# Altium schematic symbol library GH1.25.SchLib: 11 symbols
Pins are listed as number, name and electrical type; pins without a type are passive.

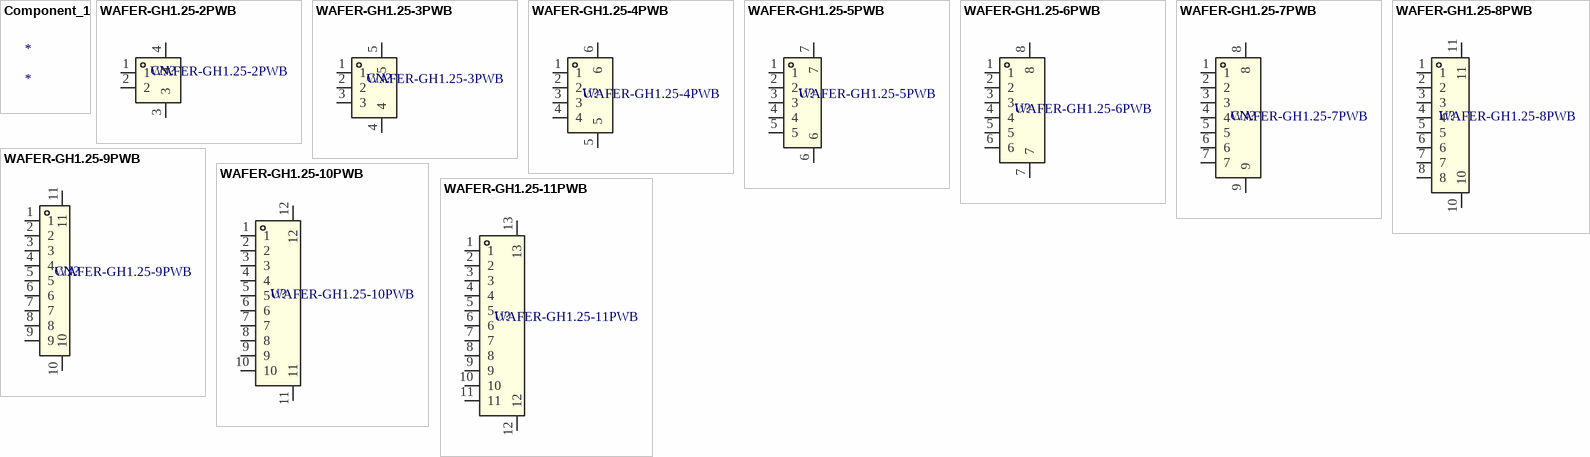
[diagram p0: symbols Component_1 to WAFER-GH1.25-11PWB]

## Component_1
designator *

## WAFER-GH1.25-2PWB
designator CN?
插针结构:1x2P;间距:1.25mm;安装方式:卧贴;参考系列:GH;总PIN数:2P;排数:1;每排PIN数:2;行距:-;额定电流:1A;触头材质:黄铜;触头镀层:锡;工作温度:-25℃~+85℃;; Manufacturer: XUNPU(讯普); SEEX_AUTHOR: ref42; SEEX_COMPONENT_ID: C3029377; Current Rating: 1A; Number of PINs Per Row: 2; Pins Structure: 1x2P; Pitch: 1.25mm; Plastic Material: LCP; Reference Series: GH; Supplementary Features: 辅助焊脚; Voltage Rating: 125V; X-Length of Bottom Edge on Board (Spacing Line): 5.75mm; Y-Width of Bottom Edge on Board: 5mm; Z-Height of the Board: 4.35mm; SEEX_PROJECT_URL: https://github.com/ref42/seex; Footprint: CONN-TH_2P-P1.25_XUNPU_WAFER-GH1.25-2PWB; Color: 米色; Contact Material: 黄铜; Contact Plating: 锡; Datasheet: https://item.szlcsc.com/datasheet/WAFER-GH1.25-2PWB/3561389.html; JLCPCB Part Class: Extended Part; LCSC Part Name: 1x2P 间距:1.25mm 卧贴 系列:GH; Manufacturer Part: WAFER-GH1.25-2PWB; Mounting Type: 卧贴; Number of Pins: 2P; Number of Rows: 1; Operating Temperature: -25℃~+85℃; Supplier: LCSC; Supplier Footprint: SMD,P=1.25mm,卧贴; Supplier Part: C3029377
footprint CONN-TH_2P-P1.25_XUNPU_WAFER-GH1.25-2PLB (SMD,P=1.25mm 卧贴)
pins: 1, 2, 3, 4

## WAFER-GH1.25-3PWB
designator CN?
插针结构:1x3P;间距:1.25mm;安装方式:卧贴;参考系列:GH;总PIN数:3P;排数:1;每排PIN数:3;行距:-;额定电流:1A;触头材质:黄铜;触头镀层:锡;工作温度:-25℃~+85℃;; Manufacturer: XUNPU(讯普); SEEX_AUTHOR: ref42; SEEX_COMPONENT_ID: C3029378; Current Rating: 1A; Number of PINs Per Row: 3; Pins Structure: 1x3P; Pitch: 1.25mm; Plastic Material: LCP; Reference Series: GH; Supplementary Features: 辅助焊脚; Voltage Rating: 125V; X-Length of Bottom Edge on Board (Spacing Line): 7mm; Y-Width of Bottom Edge on Board: 5mm; Z-Height of the Board: 4.35mm; SEEX_PROJECT_URL: https://github.com/ref42/seex; Footprint: CONN-TH_3P-P1.25_GH1.25; Color: 米色; Contact Material: 黄铜; Contact Plating: 锡; Datasheet: https://item.szlcsc.com/datasheet/WAFER-GH1.25-3PWB/3561390.html; JLCPCB Part Class: Extended Part; LCSC Part Name: 1x3P 间距:1.25mm 卧贴 系列:GH; Manufacturer Part: WAFER-GH1.25-3PWB; Mounting Type: 卧贴; Number of Pins: 3P; Number of Rows: 1; Operating Temperature: -25℃~+85℃; Supplier: LCSC; Supplier Footprint: SMD,P=1.25mm,卧贴; Supplier Part: C3029378
footprint CONN-SMD_3P-P1.25_XUNPU_WAFER-GH1.25-3PLB (SMD,P=1.25mm 卧贴)
pins: 1, 2, 3, 4, 5

## WAFER-GH1.25-4PWB
designator U?
插针结构:1x4P;间距:1.25mm;安装方式:卧贴;参考系列:GH;总PIN数:4P;排数:1;每排PIN数:4;行距:-;额定电流:1A;触头材质:黄铜;触头镀层:锡;工作温度:-25℃~+85℃;; Manufacturer: XUNPU(讯普); SEEX_AUTHOR: ref42; SEEX_COMPONENT_ID: C3029379; Current Rating: 1A; Number of PINs Per Row: 4; Pins Structure: 1x4P; Pitch: 1.25mm; Plastic Material: LCP; Reference Series: GH; Supplementary Features: 辅助焊脚; Voltage Rating: 125V; X-Length of Bottom Edge on Board (Spacing Line): 8.25mm; Y-Width of Bottom Edge on Board: 5mm; Z-Height of the Board: 4.35mm; SEEX_PROJECT_URL: https://github.com/ref42/seex; Footprint: CONN-SMD_4P-P1.25_XUNPU_WAFER-GH1.25-4PWB; Color: 米色; Contact Material: 黄铜; Contact Plating: 锡; Datasheet: https://item.szlcsc.com/datasheet/WAFER-GH1.25-4PWB/3561391.html; JLCPCB Part Class: Extended Part; LCSC Part Name: 1x4P 间距:1.25mm 卧贴 系列:GH; Manufacturer Part: WAFER-GH1.25-4PWB; Mounting Type: 卧贴; Number of Pins: 4P; Number of Rows: 1; Operating Temperature: -25℃~+85℃; Supplier: LCSC; Supplier Footprint: SMD,P=1.25mm,卧贴; Supplier Part: C3029379
footprint CONN-SMD_4P-P1.25_XUNPU_WAFER-GH1.25-4PLB (SMD,P=1.25mm 卧贴)
pins: 1, 2, 3, 4, 5, 6

## WAFER-GH1.25-5PWB
designator U?
插针结构:1x5P;间距:1.25mm;安装方式:卧贴;参考系列:GH;总PIN数:5P;排数:1;每排PIN数:5;行距:-;额定电流:1A;触头材质:黄铜;触头镀层:锡;工作温度:-25℃~+85℃;; Manufacturer: XUNPU(讯普); SEEX_AUTHOR: ref42; SEEX_COMPONENT_ID: C3029380; Current Rating: 1A; Number of PINs Per Row: 5; Pins Structure: 1x5P; Pitch: 1.25mm; Plastic Material: LCP; Reference Series: GH; Supplementary Features: 辅助焊脚; Voltage Rating: 125V; X-Length of Bottom Edge on Board (Spacing Line): 9.5mm; Y-Width of Bottom Edge on Board: 5mm; Z-Height of the Board: 4.35mm; SEEX_PROJECT_URL: https://github.com/ref42/seex; Footprint: CONN-SMD_5P-P1.25_XUNPU_WAFER-GH1.25-5PWB; Color: 米色; Contact Material: 黄铜; Contact Plating: 锡; Datasheet: https://item.szlcsc.com/datasheet/WAFER-GH1.25-5PWB/3561392.html; JLCPCB Part Class: Extended Part; LCSC Part Name: 1x5P 间距:1.25mm 卧贴 系列:GH; Manufacturer Part: WAFER-GH1.25-5PWB; Mounting Type: 卧贴; Number of Pins: 5P; Number of Rows: 1; Operating Temperature: -25℃~+85℃; Supplier: LCSC; Supplier Footprint: SMD,P=1.25mm,卧贴; Supplier Part: C3029380
footprint CONN-SMD_5P-P1.25_XUNPU_WAFER-GH1.25-5PLB (SMD,P=1.25mm 卧贴)
pins: 1, 2, 3, 4, 5, 6, 7

## WAFER-GH1.25-6PWB
designator U?
插针结构:1x6P;间距:1.25mm;安装方式:卧贴;参考系列:GH;总PIN数:6P;排数:1;每排PIN数:6;行距:-;额定电流:1A;触头材质:黄铜;触头镀层:锡;工作温度:-25℃~+85℃;; Manufacturer: XUNPU(讯普); SEEX_AUTHOR: ref42; SEEX_COMPONENT_ID: C3029381; Current Rating: 1A; Number of PINs Per Row: 6; Pins Structure: 1x6P; Pitch: 1.25mm; Plastic Material: LCP; Reference Series: GH; Supplementary Features: 辅助焊脚; Voltage Rating: 125V; X-Length of Bottom Edge on Board (Spacing Line): 10.75mm; Y-Width of Bottom Edge on Board: 5mm; Z-Height of the Board: 4.35mm; SEEX_PROJECT_URL: https://github.com/ref42/seex; Footprint: CONN-SMD_6P-P1.25_XUNPU_WAFER-GH1.25-6PWB; Color: 米色; Contact Material: 黄铜; Contact Plating: 锡; Datasheet: https://item.szlcsc.com/datasheet/WAFER-GH1.25-6PWB/3561393.html; JLCPCB Part Class: Extended Part; LCSC Part Name: 1x6P 间距:1.25mm 卧贴 系列:GH; Manufacturer Part: WAFER-GH1.25-6PWB; Mounting Type: 卧贴; Number of Pins: 6P; Number of Rows: 1; Operating Temperature: -25℃~+85℃; Supplier: LCSC; Supplier Footprint: SMD,P=1.25mm,卧贴; Supplier Part: C3029381
footprint CONN-SMD_6P-P1.25_XUNPU_WAFER-GH1.25-6PLB (SMD,P=1.25mm 卧贴)
pins: 1, 2, 3, 4, 5, 6, 7, 8

## WAFER-GH1.25-7PWB
designator CN?
插针结构:1x7P;间距:1.25mm;安装方式:卧贴;参考系列:GH;总PIN数:7P;排数:1;每排PIN数:7;行距:-;额定电流:1A;触头材质:黄铜;触头镀层:锡;工作温度:-25℃~+85℃;; Manufacturer: XUNPU(讯普); SEEX_AUTHOR: ref42; SEEX_COMPONENT_ID: C3029382; Current Rating: 1A; Number of PINs Per Row: 7; Pins Structure: 1x7P; Pitch: 1.25mm; Plastic Material: LCP; Reference Series: GH; Supplementary Features: 辅助焊脚; Voltage Rating: 125V; X-Length of Bottom Edge on Board (Spacing Line): 12mm; Y-Width of Bottom Edge on Board: 5mm; Z-Height of the Board: 4.35mm; SEEX_PROJECT_URL: https://github.com/ref42/seex; Footprint: CONN-SMD_7P-P1.25_FWF12514-S07B24W5M; Color: 米色; Contact Material: 黄铜; Contact Plating: 锡; Datasheet: https://item.szlcsc.com/datasheet/WAFER-GH1.25-7PWB/3561394.html; JLCPCB Part Class: Extended Part; LCSC Part Name: 1x7P 间距:1.25mm 卧贴 系列:GH; Manufacturer Part: WAFER-GH1.25-7PWB; Mounting Type: 卧贴; Number of Pins: 7P; Number of Rows: 1; Operating Temperature: -25℃~+85℃; Supplier: LCSC; Supplier Footprint: SMD,P=1.25mm,卧贴; Supplier Part: C3029382
footprint CONN-SMD_7P-P1.25_XUNPU_WAFER-GH1.25-7PLB (SMD,P=1.25mm 卧贴)
pins: 1, 2, 3, 4, 5, 6, 7, 8, 9

## WAFER-GH1.25-8PWB
designator U?
插针结构:1x8P;间距:1.25mm;安装方式:卧贴;参考系列:GH;总PIN数:8P;排数:1;每排PIN数:8;行距:-;额定电流:1A;触头材质:黄铜;触头镀层:锡;工作温度:-25℃~+85℃;; Manufacturer: XUNPU(讯普); SEEX_AUTHOR: ref42; SEEX_COMPONENT_ID: C3029383; Current Rating: 1A; Number of PINs Per Row: 8; Pins Structure: 1x8P; Pitch: 1.25mm; Plastic Material: LCP; Reference Series: GH; Supplementary Features: 辅助焊脚; Voltage Rating: 125V; X-Length of Bottom Edge on Board (Spacing Line): 13.25mm; Y-Width of Bottom Edge on Board: 5mm; Z-Height of the Board: 4.35mm; SEEX_PROJECT_URL: https://github.com/ref42/seex; Footprint: CONN-SMD_8P-P1.25_XUNPU-WAFER-GH1.25-8PWB; Color: 米色; Contact Material: 黄铜; Contact Plating: 锡; Datasheet: https://item.szlcsc.com/datasheet/WAFER-GH1.25-8PWB/3561395.html; JLCPCB Part Class: Extended Part; LCSC Part Name: 1x8P 间距:1.25mm 卧贴 系列:GH; Manufacturer Part: WAFER-GH1.25-8PWB; Mounting Type: 卧贴; Number of Pins: 8P; Number of Rows: 1; Operating Temperature: -25℃~+85℃; Supplier: LCSC; Supplier Footprint: SMD,P=1.25mm,卧贴; Supplier Part: C3029383
footprint CONN-SMD_8P-P1.25_WAFER-GH1.25-8PLB (CONN-SMD_8P-P1.25_WAFER-GH1.25-8PLB 卧贴)
pins: 1, 2, 3, 4, 5, 6, 7, 8, 10, 11

## WAFER-GH1.25-9PWB
designator CN?
插针结构:1x9P;间距:1.25mm;安装方式:卧贴;参考系列:GH;总PIN数:9P;排数:1;每排PIN数:9;行距:-;额定电流:1A;触头材质:黄铜;触头镀层:锡;工作温度:-25℃~+85℃;; Manufacturer: XUNPU(讯普); SEEX_AUTHOR: ref42; SEEX_COMPONENT_ID: C3029384; Current Rating: 1A; Number of PINs Per Row: 9; Pins Structure: 1x9P; Pitch: 1.25mm; Plastic Material: LCP; Reference Series: GH; Supplementary Features: 辅助焊脚; Voltage Rating: 125V; X-Length of Bottom Edge on Board (Spacing Line): 14.5mm; Y-Width of Bottom Edge on Board: 5mm; Z-Height of the Board: 4.35mm; SEEX_PROJECT_URL: https://github.com/ref42/seex; Footprint: CONN-SMD_9P-P1.25_XUNPU_WAFER-GH1.25-9PWB; Color: 米色; Contact Material: 黄铜; Contact Plating: 锡; Datasheet: https://item.szlcsc.com/datasheet/WAFER-GH1.25-9PWB/3561396.html; JLCPCB Part Class: Extended Part; LCSC Part Name: 1x9P 间距:1.25mm 卧贴 系列:GH; Manufacturer Part: WAFER-GH1.25-9PWB; Mounting Type: 卧贴; Number of Pins: 9P; Number of Rows: 1; Operating Temperature: -25℃~+85℃; Supplier: LCSC; Supplier Footprint: SMD,P=1.25mm,卧贴; Supplier Part: C3029384
footprint CONN-SMD_9P-P1.25_XUNPU_WAFER-GH1.25-9PLB (SMD,P=1.25mm 卧贴)
pins: 1, 2, 3, 4, 5, 6, 7, 8, 9, 10, 11

## WAFER-GH1.25-10PWB
designator U?
插针结构:1x10P;间距:1.25mm;安装方式:卧贴;参考系列:GH;总PIN数:10P;排数:1;每排PIN数:10;行距:-;额定电流:1A;触头材质:黄铜;触头镀层:锡;工作温度:-25℃~+85℃;; Manufacturer: XUNPU(讯普); SEEX_AUTHOR: ref42; SEEX_COMPONENT_ID: C3029385; Current Rating: 1A; Number of PINs Per Row: 10; Pins Structure: 1x10P; Pitch: 1.25mm; Plastic Material: LCP; Reference Series: GH; Supplementary Features: 辅助焊脚; Voltage Rating: 125V; X-Length of Bottom Edge on Board (Spacing Line): 15.75mm; Y-Width of Bottom Edge on Board: 5mm; Z-Height of the Board: 4.35mm; SEEX_PROJECT_URL: https://github.com/ref42/seex; Footprint: CONN-SMD_10P-P1.25_XUNPU_WAFER-GH1.25-10PWB; Color: 米色; Contact Material: 黄铜; Contact Plating: 锡; Datasheet: https://item.szlcsc.com/datasheet/WAFER-GH1.25-10PWB/3561397.html; JLCPCB Part Class: Extended Part; LCSC Part Name: 1x10P 间距:1.25mm 卧贴 系列:GH; Manufacturer Part: WAFER-GH1.25-10PWB; Mounting Type: 卧贴; Number of Pins: 10P; Number of Rows: 1; Operating Temperature: -25℃~+85℃; Supplier: LCSC; Supplier Footprint: SMD,P=1.25mm,卧贴; Supplier Part: C3029385
footprint CONN-SMD_10P-P1.25_XUNPU_WAFER-GH1.25-10PLB (SMD,P=1.25mm; GH1.25-10PWBP2 卧贴)
pins: 1, 2, 3, 4, 5, 6, 7, 8, 9, 10, 11, 12

## WAFER-GH1.25-11PWB
designator U?
插针结构:1x11P;间距:1.25mm;安装方式:卧贴;参考系列:GH;总PIN数:11P;排数:1;每排PIN数:11;行距:-;额定电流:1A;触头材质:黄铜;触头镀层:锡;工作温度:-25℃~+85℃;; Manufacturer: XUNPU(讯普); SEEX_AUTHOR: ref42; SEEX_COMPONENT_ID: C22370220; Current Rating: 1A; Number of PINs Per Row: 11; Pins Structure: 1x11P; Pitch: 1.25mm; Plastic Material: LCP; Reference Series: GH; Supplementary Features: 辅助焊脚; Voltage Rating: 125V; X-Length of Bottom Edge on Board (Spacing Line): 17mm; Y-Width of Bottom Edge on Board: 5mm; Z-Height of the Board: 4.35mm; SEEX_PROJECT_URL: https://github.com/ref42/seex; Footprint: CONN-SMD_11P-P1.25_XUNPU_WAFER-GH1.25-11PWB; Color: 米色; Contact Material: 黄铜; Contact Plating: 锡; Datasheet: https://item.szlcsc.com/datasheet/WAFER-GH1.25-11PWB/23850673.html; JLCPCB Part Class: Extended Part; LCSC Part Name: 1x11P 间距:1.25mm 卧贴 系列:GH; Manufacturer Part: WAFER-GH1.25-11PWB; Mounting Type: 卧贴; Number of Pins: 11P; Number of Rows: 1; Operating Temperature: -25℃~+85℃; Supplier: LCSC; Supplier Footprint: SMD,P=1.25mm,卧贴; Supplier Part: C22370220
footprint CONN-SMD_11P-P1.25_XUNPU_WAFER-GH1.25-11PWB
pins: 1, 2, 3, 4, 5, 6, 7, 8, 9, 10, 11, 12, 13